# Altium footprint library pcb.PcbLib: 4 footprints
Each footprint in its own frame and in the unit in brackets; x right, y up, seen from the top. Pads: shape width x height; smd on the part's side, far side on the other; paste and mask are expansions set on the pad; w line width, h text height; cw(c..) or ccw(c..) is an arc to the next point about the centre after c.
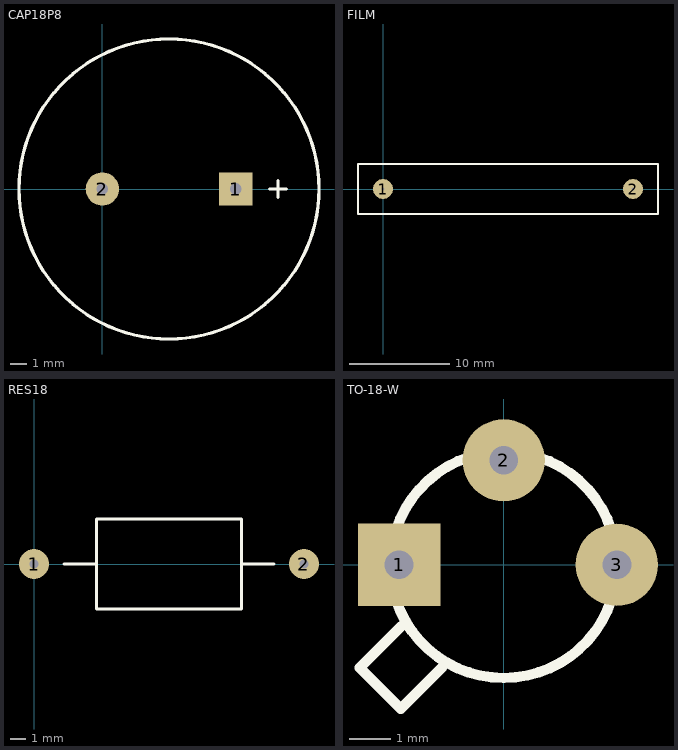
[diagram p0: the footprints below, top view; thin cyan lines are the x and y axes]

## CAP18P8 [mm]
pads (2):
  rect 2x2 hole 0.7: 1(8,0)
  round 2 hole 0.7: 2(0,0)
Top Overlay:
  circle w0.2: c4,0 r9
  lines w0.2: 10.032,0 11.048,0 ; 10.54,-0.508 10.54,0.508

## FILM [mm]
pads (2):
  round 2 hole 0.3: 1(0,0) 2(25,0)
Top Overlay:
  lines w0.2: -2.5,-2.5 -2.5,2.5 0,2.5 25,2.5 27.5,2.5 27.5,-2.5 25,-2.5 0,-2.5 -2.5,-2.5

## RES18 [mm]
pads (2):
  round 2 hole 0.6: 1(0,0) 2(18,0)
Top Overlay:
  lines w0.2: 2,0 4.175,0 ; 13.825,0 16,0 ; 4.175,0 4.175,3 13.825,3 13.825,-3 4.175,-3 4.175,0

## TO-18-W [mm] "Wider version of package"
pads (3):
  rect 2x2 hole 0.7: 1(-2.54,0)
  round 2 hole 0.7: 2(0,2.54) 3(2.75,0)
Top Overlay:
  circle w0.254: c0,0 r2.75
  lines w0.254: -2.5,-1.5 -3.5,-2.5 -2.5,-3.5 ; -1.5,-2.5 -2.5,-3.5 ; -2.5,-3.5 -2.5,-3.5